# Altium footprint library MLPF-WB55-01E3.PcbLib: 3 footprints
Each footprint in its own frame and in the unit in brackets; x right, y up, seen from the top. Pads: shape width x height; smd on the part's side, far side on the other; paste and mask are expansions set on the pad; w line width, h text height; cw(c..) or ccw(c..) is an arc to the next point about the centre after c.
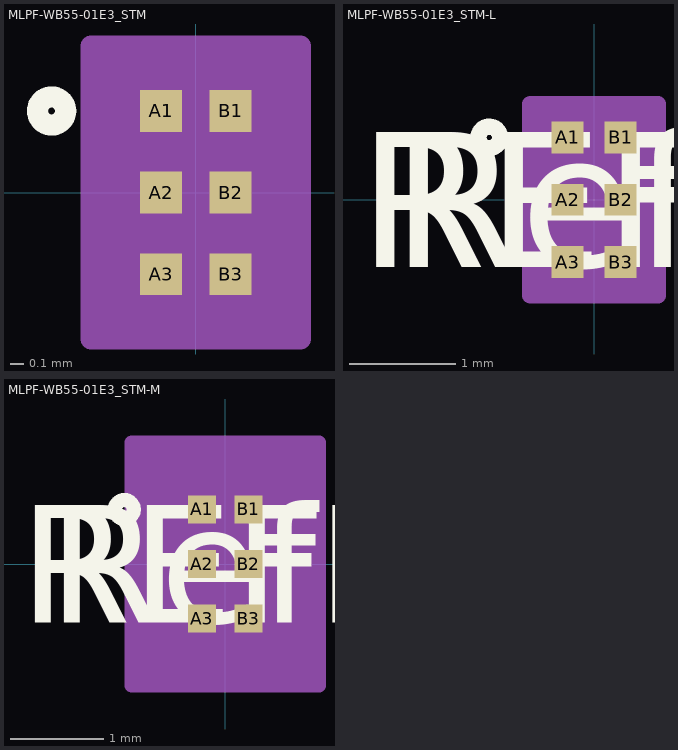
[diagram p0: the footprints below, top view; thin cyan lines are the x and y axes]

## MLPF-WB55-01E3_STM [mm]
pads (6):
  rect 0.3x0.3 smd paste-0.05 mask-0.051: A1(-0.25,0.587) A2(-0.25,0) A3(-0.25,-0.587) B1(0.25,0.587) B2(0.25,0) B3(0.25,-0.587)
Top Overlay:
  circle w0.152: c-1.038,0.587 r0.102
Mechanical 13:
  circle w0: c-0.1,0.587 r0.076
  lines w0: -0.305,0.8 ccw(c0,0.8) 0.305,0.8
  lines w0.025: -0.5,-0.8 -0.5,0.8 0.5,0.8 0.5,-0.8 -0.5,-0.8
Mechanical 15:
  region: -0.754,-0.991 -0.754,0.991 -0.754,1.054 0.754,1.054 0.754,0.991 0.754,-0.991 0.754,-1.054 -0.754,-1.054
  lines w0.152: -0.754,-1.054 0.754,-1.054 0.754,-0.991 0.754,0.991 0.754,1.054 -0.754,1.054 -0.754,0.991 -0.754,-0.991 -0.754,-1.054
3D body "MLPF-WB55-01E3_STM.step": height 0.46, standoff 0, extent -0.5,-0.8 0.5,0.8

## MLPF-WB55-01E3_STM-L [mm]
pads (6):
  rect 0.3x0.3 smd paste-0.05 mask-0.051: A1(-0.25,0.587) A2(-0.25,0) A3(-0.25,-0.587) B1(0.25,0.587) B2(0.25,0) B3(0.25,-0.587)
Top Overlay:
  circle w0.152: c-0.987,0.587 r0.102
  text "RefDes" at -1.905,-0.635 h1.27
  text "REFDES" at -2.222,-0.635 h1.27
Mechanical 13:
  circle w0: c-0.151,0.587 r0.076
  lines w0: -0.305,0.8 ccw(c0,0.8) 0.305,0.8
  lines w0.025: -0.5,-0.8 0.5,-0.8 0.5,0.8 -0.5,0.8 -0.5,-0.8
  text "RefDes2" at -2.222,-0.635 h1.27
Mechanical 15:
  region: -0.602,-0.813 -0.602,0.813 -0.602,0.902 0.602,0.902 0.602,0.813 0.602,-0.813 0.602,-0.902 -0.602,-0.902
  lines w0.152: -0.602,-0.813 -0.602,0.813 ; -0.602,-0.813 -0.602,-0.813 ; -0.602,-0.813 -0.602,-0.902 0.602,-0.902 0.602,-0.813 ; -0.602,0.813 -0.602,0.813 ; -0.602,0.813 -0.602,0.902 0.602,0.902 0.602,0.813 ; 0.602,-0.813 0.602,0.813 ; 0.602,-0.813 0.602,-0.813 ; 0.602,0.813 0.602,0.813
3D body "MLPF-WB55-01E3_STM.step": height 0.46, standoff 0, extent -0.5,-0.8 0.5,0.8

## MLPF-WB55-01E3_STM-M [mm]
pads (6):
  rect 0.3x0.3 smd paste-0.05 mask-0.051: A1(-0.25,0.587) A2(-0.25,0) A3(-0.25,-0.587) B1(0.25,0.587) B2(0.25,0) B3(0.25,-0.587)
Top Overlay:
  circle w0.152: c-1.089,0.587 r0.102
  text "RefDes" at -1.905,-0.635 h1.27
  text "REFDES" at -2.222,-0.635 h1.27
Mechanical 13:
  circle w0: c-0.049,0.587 r0.076
  lines w0: -0.305,0.8 ccw(c0,0.8) 0.305,0.8
  lines w0.025: -0.5,-0.8 0.5,-0.8 0.5,0.8 -0.5,0.8 -0.5,-0.8
  text "RefDes2" at -2.222,-0.635 h1.27
Mechanical 15:
  region: -1.008,-1.27 -1.008,1.27 -1.008,1.308 1.008,1.308 1.008,1.27 1.008,-1.27 1.008,-1.308 -1.008,-1.308
  lines w0.152: -1.008,-1.27 -1.008,1.27 ; -1.008,-1.27 -1.008,-1.27 ; -1.008,-1.27 -1.008,-1.308 1.008,-1.308 1.008,-1.27 ; -1.008,1.27 -1.008,1.27 ; -1.008,1.27 -1.008,1.308 1.008,1.308 1.008,1.27 ; 1.008,-1.27 1.008,1.27 ; 1.008,-1.27 1.008,-1.27 ; 1.008,1.27 1.008,1.27
3D body "MLPF-WB55-01E3_STM.step": height 0.46, standoff 0, extent -0.5,-0.8 0.5,0.8